# Altium footprint library FQFP (0.5mm Pitch, Square) - Corner Index.PcbLib: 53 footprints (part 3 of 5)
Each footprint in its own frame and in the unit in brackets; x right, y up, seen from the top. Pads: shape width x height; smd on the part's side, far side on the other; paste and mask are expansions set on the pad; w line width, h text height; cw(c..) or ccw(c..) is an arc to the next point about the centre after c.
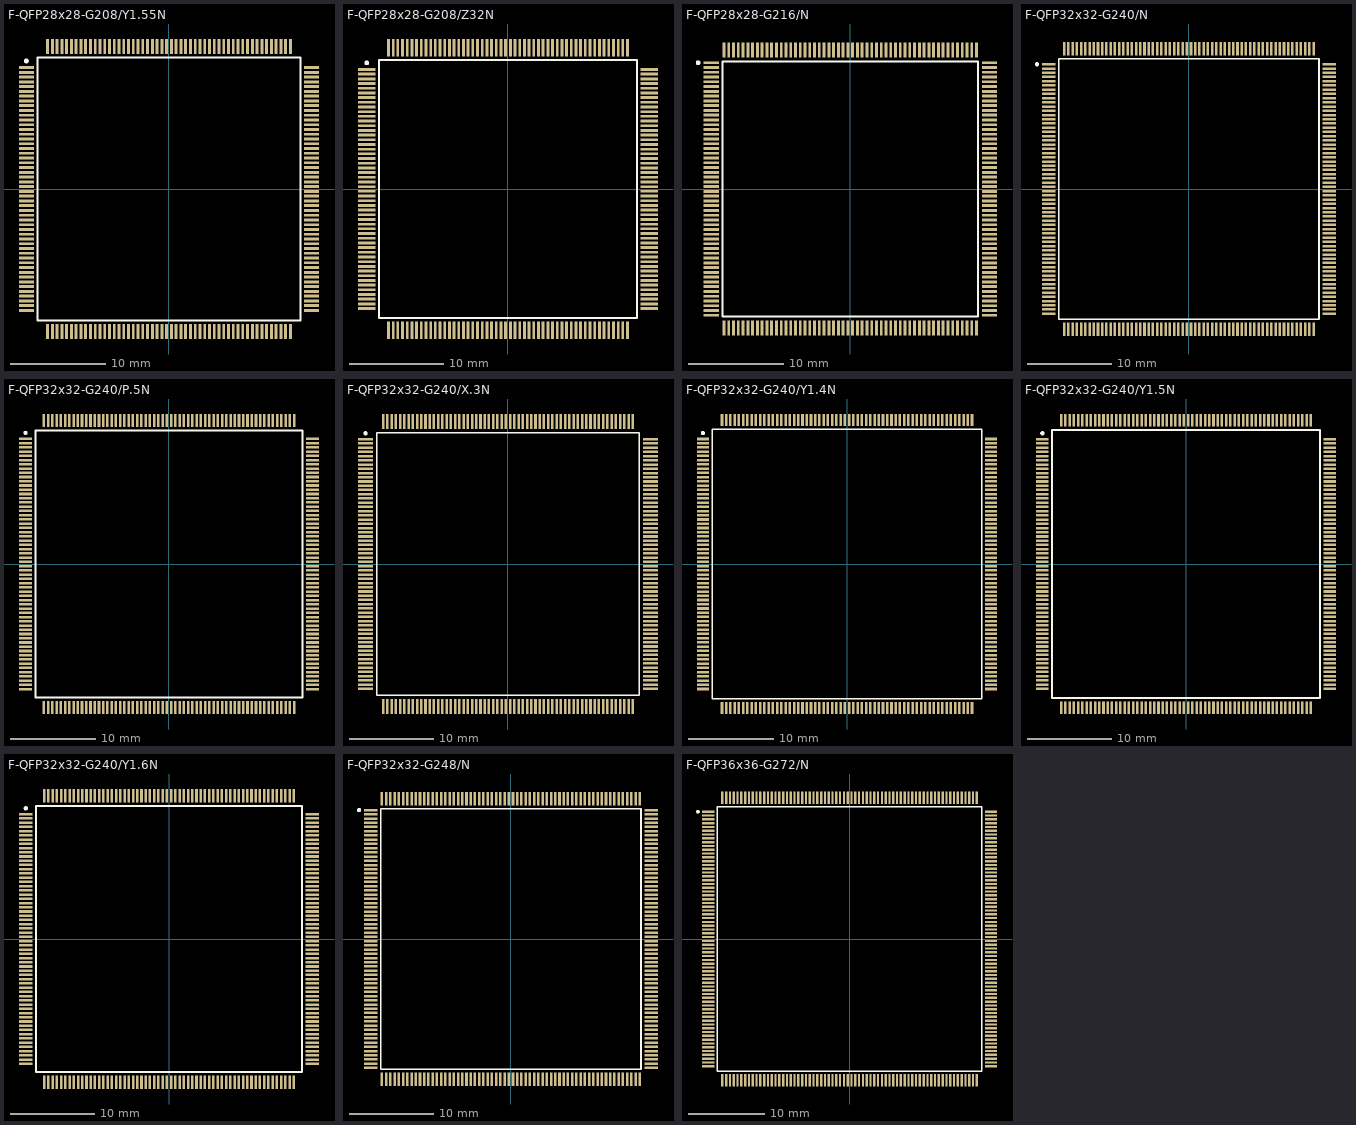
[diagram p2: the footprints below, top view; thin cyan lines are the x and y axes]

## F-QFP28x28-G208/Y1.55N [mm]
pads (208):
  rect 1.55x0.3 smd: 1(-14.975,12.75) 2(-14.975,12.25) 3(-14.975,11.75) 4(-14.975,11.25) 5(-14.975,10.75) 6(-14.975,10.25) 7(-14.975,9.75) 8(-14.975,9.25) 9(-14.975,8.75) 10(-14.975,8.25) 11(-14.975,7.75) 12(-14.975,7.25) 13(-14.975,6.75) 14(-14.975,6.25) 15(-14.975,5.75) 16(-14.975,5.25) 17(-14.975,4.75) 18(-14.975,4.25) 19(-14.975,3.75) 20(-14.975,3.25) 21(-14.975,2.75) 22(-14.975,2.25) 23(-14.975,1.75) 24(-14.975,1.25) 25(-14.975,0.75) 26(-14.975,0.25) 27(-14.975,-0.25) 28(-14.975,-0.75) 29(-14.975,-1.25) 30(-14.975,-1.75) 31(-14.975,-2.25) 32(-14.975,-2.75) 33(-14.975,-3.25) 34(-14.975,-3.75) 35(-14.975,-4.25) 36(-14.975,-4.75) 37(-14.975,-5.25) 38(-14.975,-5.75) 39(-14.975,-6.25) 40(-14.975,-6.75) 41(-14.975,-7.25) 42(-14.975,-7.75) 43(-14.975,-8.25) 44(-14.975,-8.75) 45(-14.975,-9.25) 46(-14.975,-9.75) 47(-14.975,-10.25) 48(-14.975,-10.75) 49(-14.975,-11.25) 50(-14.975,-11.75) 51(-14.975,-12.25) 52(-14.975,-12.75) 105(14.975,-12.75) 106(14.975,-12.25) 107(14.975,-11.75) 108(14.975,-11.25) 109(14.975,-10.75) 110(14.975,-10.25) 111(14.975,-9.75) 112(14.975,-9.25) 113(14.975,-8.75) 114(14.975,-8.25) 115(14.975,-7.75) 116(14.975,-7.25) 117(14.975,-6.75) 118(14.975,-6.25) 119(14.975,-5.75) 120(14.975,-5.25) 121(14.975,-4.75) 122(14.975,-4.25) 123(14.975,-3.75) 124(14.975,-3.25) 125(14.975,-2.75) 126(14.975,-2.25) 127(14.975,-1.75) 128(14.975,-1.25) 129(14.975,-0.75) 130(14.975,-0.25) 131(14.975,0.25) 132(14.975,0.75) 133(14.975,1.25) 134(14.975,1.75) 135(14.975,2.25) 136(14.975,2.75) 137(14.975,3.25) 138(14.975,3.75) 139(14.975,4.25) 140(14.975,4.75) 141(14.975,5.25) 142(14.975,5.75) 143(14.975,6.25) 144(14.975,6.75) 145(14.975,7.25) 146(14.975,7.75) 147(14.975,8.25) 148(14.975,8.75) 149(14.975,9.25) 150(14.975,9.75) 151(14.975,10.25) 152(14.975,10.75) 153(14.975,11.25) 154(14.975,11.75) 155(14.975,12.25) 156(14.975,12.75)
  rect 0.3x1.55 smd: 53(-12.75,-14.975) 54(-12.25,-14.975) 55(-11.75,-14.975) 56(-11.25,-14.975) 57(-10.75,-14.975) 58(-10.25,-14.975) 59(-9.75,-14.975) 60(-9.25,-14.975) 61(-8.75,-14.975) 62(-8.25,-14.975) 63(-7.75,-14.975) 64(-7.25,-14.975) 65(-6.75,-14.975) 66(-6.25,-14.975) 67(-5.75,-14.975) 68(-5.25,-14.975) 69(-4.75,-14.975) 70(-4.25,-14.975) 71(-3.75,-14.975) 72(-3.25,-14.975) 73(-2.75,-14.975) 74(-2.25,-14.975) 75(-1.75,-14.975) 76(-1.25,-14.975) 77(-0.75,-14.975) 78(-0.25,-14.975) 79(0.25,-14.975) 80(0.75,-14.975) 81(1.25,-14.975) 82(1.75,-14.975) 83(2.25,-14.975) 84(2.75,-14.975) 85(3.25,-14.975) 86(3.75,-14.975) 87(4.25,-14.975) 88(4.75,-14.975) 89(5.25,-14.975) 90(5.75,-14.975) 91(6.25,-14.975) 92(6.75,-14.975) 93(7.25,-14.975) 94(7.75,-14.975) 95(8.25,-14.975) 96(8.75,-14.975) 97(9.25,-14.975) 98(9.75,-14.975) 99(10.25,-14.975) 100(10.75,-14.975) 101(11.25,-14.975) 102(11.75,-14.975) 103(12.25,-14.975) 104(12.75,-14.975) 157(12.75,14.975) 158(12.25,14.975) 159(11.75,14.975) 160(11.25,14.975) 161(10.75,14.975) 162(10.25,14.975) 163(9.75,14.975) 164(9.25,14.975) 165(8.75,14.975) 166(8.25,14.975) 167(7.75,14.975) 168(7.25,14.975) 169(6.75,14.975) 170(6.25,14.975) 171(5.75,14.975) 172(5.25,14.975) 173(4.75,14.975) 174(4.25,14.975) 175(3.75,14.975) 176(3.25,14.975) 177(2.75,14.975) 178(2.25,14.975) 179(1.75,14.975) 180(1.25,14.975) 181(0.75,14.975) 182(0.25,14.975) 183(-0.25,14.975) 184(-0.75,14.975) 185(-1.25,14.975) 186(-1.75,14.975) 187(-2.25,14.975) 188(-2.75,14.975) 189(-3.25,14.975) 190(-3.75,14.975) 191(-4.25,14.975) 192(-4.75,14.975) 193(-5.25,14.975) 194(-5.75,14.975) 195(-6.25,14.975) 196(-6.75,14.975) 197(-7.25,14.975) 198(-7.75,14.975) 199(-8.25,14.975) 200(-8.75,14.975) 201(-9.25,14.975) 202(-9.75,14.975) 203(-10.25,14.975) 204(-10.75,14.975) 205(-11.25,14.975) 206(-11.75,14.975) 207(-12.25,14.975) 208(-12.75,14.975)
Top Overlay:
  circle w0.25: c-14.975,13.45 r0.125
  lines w0.2: -13.8,-13.8 -13.8,13.8 13.8,13.8 13.8,-13.8 -13.8,-13.8

## F-QFP28x28-G208/Z32N [mm]
pads (208):
  rect 1.85x0.3 smd: 1(-15.075,12.75) 2(-15.075,12.25) 3(-15.075,11.75) 4(-15.075,11.25) 5(-15.075,10.75) 6(-15.075,10.25) 7(-15.075,9.75) 8(-15.075,9.25) 9(-15.075,8.75) 10(-15.075,8.25) 11(-15.075,7.75) 12(-15.075,7.25) 13(-15.075,6.75) 14(-15.075,6.25) 15(-15.075,5.75) 16(-15.075,5.25) 17(-15.075,4.75) 18(-15.075,4.25) 19(-15.075,3.75) 20(-15.075,3.25) 21(-15.075,2.75) 22(-15.075,2.25) 23(-15.075,1.75) 24(-15.075,1.25) 25(-15.075,0.75) 26(-15.075,0.25) 27(-15.075,-0.25) 28(-15.075,-0.75) 29(-15.075,-1.25) 30(-15.075,-1.75) 31(-15.075,-2.25) 32(-15.075,-2.75) 33(-15.075,-3.25) 34(-15.075,-3.75) 35(-15.075,-4.25) 36(-15.075,-4.75) 37(-15.075,-5.25) 38(-15.075,-5.75) 39(-15.075,-6.25) 40(-15.075,-6.75) 41(-15.075,-7.25) 42(-15.075,-7.75) 43(-15.075,-8.25) 44(-15.075,-8.75) 45(-15.075,-9.25) 46(-15.075,-9.75) 47(-15.075,-10.25) 48(-15.075,-10.75) 49(-15.075,-11.25) 50(-15.075,-11.75) 51(-15.075,-12.25) 52(-15.075,-12.75) 105(15.075,-12.75) 106(15.075,-12.25) 107(15.075,-11.75) 108(15.075,-11.25) 109(15.075,-10.75) 110(15.075,-10.25) 111(15.075,-9.75) 112(15.075,-9.25) 113(15.075,-8.75) 114(15.075,-8.25) 115(15.075,-7.75) 116(15.075,-7.25) 117(15.075,-6.75) 118(15.075,-6.25) 119(15.075,-5.75) 120(15.075,-5.25) 121(15.075,-4.75) 122(15.075,-4.25) 123(15.075,-3.75) 124(15.075,-3.25) 125(15.075,-2.75) 126(15.075,-2.25) 127(15.075,-1.75) 128(15.075,-1.25) 129(15.075,-0.75) 130(15.075,-0.25) 131(15.075,0.25) 132(15.075,0.75) 133(15.075,1.25) 134(15.075,1.75) 135(15.075,2.25) 136(15.075,2.75) 137(15.075,3.25) 138(15.075,3.75) 139(15.075,4.25) 140(15.075,4.75) 141(15.075,5.25) 142(15.075,5.75) 143(15.075,6.25) 144(15.075,6.75) 145(15.075,7.25) 146(15.075,7.75) 147(15.075,8.25) 148(15.075,8.75) 149(15.075,9.25) 150(15.075,9.75) 151(15.075,10.25) 152(15.075,10.75) 153(15.075,11.25) 154(15.075,11.75) 155(15.075,12.25) 156(15.075,12.75)
  rect 0.3x1.85 smd: 53(-12.75,-15.075) 54(-12.25,-15.075) 55(-11.75,-15.075) 56(-11.25,-15.075) 57(-10.75,-15.075) 58(-10.25,-15.075) 59(-9.75,-15.075) 60(-9.25,-15.075) 61(-8.75,-15.075) 62(-8.25,-15.075) 63(-7.75,-15.075) 64(-7.25,-15.075) 65(-6.75,-15.075) 66(-6.25,-15.075) 67(-5.75,-15.075) 68(-5.25,-15.075) 69(-4.75,-15.075) 70(-4.25,-15.075) 71(-3.75,-15.075) 72(-3.25,-15.075) 73(-2.75,-15.075) 74(-2.25,-15.075) 75(-1.75,-15.075) 76(-1.25,-15.075) 77(-0.75,-15.075) 78(-0.25,-15.075) 79(0.25,-15.075) 80(0.75,-15.075) 81(1.25,-15.075) 82(1.75,-15.075) 83(2.25,-15.075) 84(2.75,-15.075) 85(3.25,-15.075) 86(3.75,-15.075) 87(4.25,-15.075) 88(4.75,-15.075) 89(5.25,-15.075) 90(5.75,-15.075) 91(6.25,-15.075) 92(6.75,-15.075) 93(7.25,-15.075) 94(7.75,-15.075) 95(8.25,-15.075) 96(8.75,-15.075) 97(9.25,-15.075) 98(9.75,-15.075) 99(10.25,-15.075) 100(10.75,-15.075) 101(11.25,-15.075) 102(11.75,-15.075) 103(12.25,-15.075) 104(12.75,-15.075) 157(12.75,15.075) 158(12.25,15.075) 159(11.75,15.075) 160(11.25,15.075) 161(10.75,15.075) 162(10.25,15.075) 163(9.75,15.075) 164(9.25,15.075) 165(8.75,15.075) 166(8.25,15.075) 167(7.75,15.075) 168(7.25,15.075) 169(6.75,15.075) 170(6.25,15.075) 171(5.75,15.075) 172(5.25,15.075) 173(4.75,15.075) 174(4.25,15.075) 175(3.75,15.075) 176(3.25,15.075) 177(2.75,15.075) 178(2.25,15.075) 179(1.75,15.075) 180(1.25,15.075) 181(0.75,15.075) 182(0.25,15.075) 183(-0.25,15.075) 184(-0.75,15.075) 185(-1.25,15.075) 186(-1.75,15.075) 187(-2.25,15.075) 188(-2.75,15.075) 189(-3.25,15.075) 190(-3.75,15.075) 191(-4.25,15.075) 192(-4.75,15.075) 193(-5.25,15.075) 194(-5.75,15.075) 195(-6.25,15.075) 196(-6.75,15.075) 197(-7.25,15.075) 198(-7.75,15.075) 199(-8.25,15.075) 200(-8.75,15.075) 201(-9.25,15.075) 202(-9.75,15.075) 203(-10.25,15.075) 204(-10.75,15.075) 205(-11.25,15.075) 206(-11.75,15.075) 207(-12.25,15.075) 208(-12.75,15.075)
Top Overlay:
  circle w0.25: c-15.075,13.45 r0.125
  lines w0.2: -13.75,-13.75 13.75,-13.75 13.75,13.75 -13.75,13.75 -13.75,-13.75

## F-QFP28x28-G216/N [mm]
pads (216):
  rect 1.6x0.3 smd: 1(-14.6,13.25) 2(-14.6,12.75) 3(-14.6,12.25) 4(-14.6,11.75) 5(-14.6,11.25) 6(-14.6,10.75) 7(-14.6,10.25) 8(-14.6,9.75) 9(-14.6,9.25) 10(-14.6,8.75) 11(-14.6,8.25) 12(-14.6,7.75) 13(-14.6,7.25) 14(-14.6,6.75) 15(-14.6,6.25) 16(-14.6,5.75) 17(-14.6,5.25) 18(-14.6,4.75) 19(-14.6,4.25) 20(-14.6,3.75) 21(-14.6,3.25) 22(-14.6,2.75) 23(-14.6,2.25) 24(-14.6,1.75) 25(-14.6,1.25) 26(-14.6,0.75) 27(-14.6,0.25) 28(-14.6,-0.25) 29(-14.6,-0.75) 30(-14.6,-1.25) 31(-14.6,-1.75) 32(-14.6,-2.25) 33(-14.6,-2.75) 34(-14.6,-3.25) 35(-14.6,-3.75) 36(-14.6,-4.25) 37(-14.6,-4.75) 38(-14.6,-5.25) 39(-14.6,-5.75) 40(-14.6,-6.25) 41(-14.6,-6.75) 42(-14.6,-7.25) 43(-14.6,-7.75) 44(-14.6,-8.25) 45(-14.6,-8.75) 46(-14.6,-9.25) 47(-14.6,-9.75) 48(-14.6,-10.25) 49(-14.6,-10.75) 50(-14.6,-11.25) 51(-14.6,-11.75) 52(-14.6,-12.25) 53(-14.6,-12.75) 54(-14.6,-13.25) 109(14.6,-13.25) 110(14.6,-12.75) 111(14.6,-12.25) 112(14.6,-11.75) 113(14.6,-11.25) 114(14.6,-10.75) 115(14.6,-10.25) 116(14.6,-9.75) 117(14.6,-9.25) 118(14.6,-8.75) 119(14.6,-8.25) 120(14.6,-7.75) 121(14.6,-7.25) 122(14.6,-6.75) 123(14.6,-6.25) 124(14.6,-5.75) 125(14.6,-5.25) 126(14.6,-4.75) 127(14.6,-4.25) 128(14.6,-3.75) 129(14.6,-3.25) 130(14.6,-2.75) 131(14.6,-2.25) 132(14.6,-1.75) 133(14.6,-1.25) 134(14.6,-0.75) 135(14.6,-0.25) 136(14.6,0.25) 137(14.6,0.75) 138(14.6,1.25) 139(14.6,1.75) 140(14.6,2.25) 141(14.6,2.75) 142(14.6,3.25) 143(14.6,3.75) 144(14.6,4.25) 145(14.6,4.75) 146(14.6,5.25) 147(14.6,5.75) 148(14.6,6.25) 149(14.6,6.75) 150(14.6,7.25) 151(14.6,7.75) 152(14.6,8.25) 153(14.6,8.75) 154(14.6,9.25) 155(14.6,9.75) 156(14.6,10.25) 157(14.6,10.75) 158(14.6,11.25) 159(14.6,11.75) 160(14.6,12.25) 161(14.6,12.75) 162(14.6,13.25)
  rect 0.3x1.6 smd: 55(-13.25,-14.6) 56(-12.75,-14.6) 57(-12.25,-14.6) 58(-11.75,-14.6) 59(-11.25,-14.6) 60(-10.75,-14.6) 61(-10.25,-14.6) 62(-9.75,-14.6) 63(-9.25,-14.6) 64(-8.75,-14.6) 65(-8.25,-14.6) 66(-7.75,-14.6) 67(-7.25,-14.6) 68(-6.75,-14.6) 69(-6.25,-14.6) 70(-5.75,-14.6) 71(-5.25,-14.6) 72(-4.75,-14.6) 73(-4.25,-14.6) 74(-3.75,-14.6) 75(-3.25,-14.6) 76(-2.75,-14.6) 77(-2.25,-14.6) 78(-1.75,-14.6) 79(-1.25,-14.6) 80(-0.75,-14.6) 81(-0.25,-14.6) 82(0.25,-14.6) 83(0.75,-14.6) 84(1.25,-14.6) 85(1.75,-14.6) 86(2.25,-14.6) 87(2.75,-14.6) 88(3.25,-14.6) 89(3.75,-14.6) 90(4.25,-14.6) 91(4.75,-14.6) 92(5.25,-14.6) 93(5.75,-14.6) 94(6.25,-14.6) 95(6.75,-14.6) 96(7.25,-14.6) 97(7.75,-14.6) 98(8.25,-14.6) 99(8.75,-14.6) 100(9.25,-14.6) 101(9.75,-14.6) 102(10.25,-14.6) 103(10.75,-14.6) 104(11.25,-14.6) 105(11.75,-14.6) 106(12.25,-14.6) 107(12.75,-14.6) 108(13.25,-14.6) 163(13.25,14.6) 164(12.75,14.6) 165(12.25,14.6) 166(11.75,14.6) 167(11.25,14.6) 168(10.75,14.6) 169(10.25,14.6) 170(9.75,14.6) 171(9.25,14.6) 172(8.75,14.6) 173(8.25,14.6) 174(7.75,14.6) 175(7.25,14.6) 176(6.75,14.6) 177(6.25,14.6) 178(5.75,14.6) 179(5.25,14.6) 180(4.75,14.6) 181(4.25,14.6) 182(3.75,14.6) 183(3.25,14.6) 184(2.75,14.6) 185(2.25,14.6) 186(1.75,14.6) 187(1.25,14.6) 188(0.75,14.6) 189(0.25,14.6) 190(-0.25,14.6) 191(-0.75,14.6) 192(-1.25,14.6) 193(-1.75,14.6) 194(-2.25,14.6) 195(-2.75,14.6) 196(-3.25,14.6) 197(-3.75,14.6) 198(-4.25,14.6) 199(-4.75,14.6) 200(-5.25,14.6) 201(-5.75,14.6) 202(-6.25,14.6) 203(-6.75,14.6) 204(-7.25,14.6) 205(-7.75,14.6) 206(-8.25,14.6) 207(-8.75,14.6) 208(-9.25,14.6) 209(-9.75,14.6) 210(-10.25,14.6) 211(-10.75,14.6) 212(-11.25,14.6) 213(-11.75,14.6) 214(-12.25,14.6) 215(-12.75,14.6) 216(-13.25,14.6)
Top Overlay:
  circle w0.25: c-15.96,13.25 r0.125
  lines w0.2: -13.4,-13.4 13.4,-13.4 13.4,13.4 -13.4,13.4 -13.4,-13.4

## F-QFP32x32-G240/N [mm]
pads (240):
  rect 1.6x0.3 smd: 1(-16.6,14.75) 2(-16.6,14.25) 3(-16.6,13.75) 4(-16.6,13.25) 5(-16.6,12.75) 6(-16.6,12.25) 7(-16.6,11.75) 8(-16.6,11.25) 9(-16.6,10.75) 10(-16.6,10.25) 11(-16.6,9.75) 12(-16.6,9.25) 13(-16.6,8.75) 14(-16.6,8.25) 15(-16.6,7.75) 16(-16.6,7.25) 17(-16.6,6.75) 18(-16.6,6.25) 19(-16.6,5.75) 20(-16.6,5.25) 21(-16.6,4.75) 22(-16.6,4.25) 23(-16.6,3.75) 24(-16.6,3.25) 25(-16.6,2.75) 26(-16.6,2.25) 27(-16.6,1.75) 28(-16.6,1.25) 29(-16.6,0.75) 30(-16.6,0.25) 31(-16.6,-0.25) 32(-16.6,-0.75) 33(-16.6,-1.25) 34(-16.6,-1.75) 35(-16.6,-2.25) 36(-16.6,-2.75) 37(-16.6,-3.25) 38(-16.6,-3.75) 39(-16.6,-4.25) 40(-16.6,-4.75) 41(-16.6,-5.25) 42(-16.6,-5.75) 43(-16.6,-6.25) 44(-16.6,-6.75) 45(-16.6,-7.25) 46(-16.6,-7.75) 47(-16.6,-8.25) 48(-16.6,-8.75) 49(-16.6,-9.25) 50(-16.6,-9.75) 51(-16.6,-10.25) 52(-16.6,-10.75) 53(-16.6,-11.25) 54(-16.6,-11.75) 55(-16.6,-12.25) 56(-16.6,-12.75) 57(-16.6,-13.25) 58(-16.6,-13.75) 59(-16.6,-14.25) 60(-16.6,-14.75) 121(16.6,-14.75) 122(16.6,-14.25) 123(16.6,-13.75) 124(16.6,-13.25) 125(16.6,-12.75) 126(16.6,-12.25) 127(16.6,-11.75) 128(16.6,-11.25) 129(16.6,-10.75) 130(16.6,-10.25) 131(16.6,-9.75) 132(16.6,-9.25) 133(16.6,-8.75) 134(16.6,-8.25) 135(16.6,-7.75) 136(16.6,-7.25) 137(16.6,-6.75) 138(16.6,-6.25) 139(16.6,-5.75) 140(16.6,-5.25) 141(16.6,-4.75) 142(16.6,-4.25) 143(16.6,-3.75) 144(16.6,-3.25) 145(16.6,-2.75) 146(16.6,-2.25) 147(16.6,-1.75) 148(16.6,-1.25) 149(16.6,-0.75) 150(16.6,-0.25) 151(16.6,0.25) 152(16.6,0.75) 153(16.6,1.25) 154(16.6,1.75) 155(16.6,2.25) 156(16.6,2.75) 157(16.6,3.25) 158(16.6,3.75) 159(16.6,4.25) 160(16.6,4.75) 161(16.6,5.25) 162(16.6,5.75) 163(16.6,6.25) 164(16.6,6.75) 165(16.6,7.25) 166(16.6,7.75) 167(16.6,8.25) 168(16.6,8.75) 169(16.6,9.25) 170(16.6,9.75) 171(16.6,10.25) 172(16.6,10.75) 173(16.6,11.25) 174(16.6,11.75) 175(16.6,12.25) 176(16.6,12.75) 177(16.6,13.25) 178(16.6,13.75) 179(16.6,14.25) 180(16.6,14.75)
  rect 0.3x1.6 smd: 61(-14.75,-16.6) 62(-14.25,-16.6) 63(-13.75,-16.6) 64(-13.25,-16.6) 65(-12.75,-16.6) 66(-12.25,-16.6) 67(-11.75,-16.6) 68(-11.25,-16.6) 69(-10.75,-16.6) 70(-10.25,-16.6) 71(-9.75,-16.6) 72(-9.25,-16.6) 73(-8.75,-16.6) 74(-8.25,-16.6) 75(-7.75,-16.6) 76(-7.25,-16.6) 77(-6.75,-16.6) 78(-6.25,-16.6) 79(-5.75,-16.6) 80(-5.25,-16.6) 81(-4.75,-16.6) 82(-4.25,-16.6) 83(-3.75,-16.6) 84(-3.25,-16.6) 85(-2.75,-16.6) 86(-2.25,-16.6) 87(-1.75,-16.6) 88(-1.25,-16.6) 89(-0.75,-16.6) 90(-0.25,-16.6) 91(0.25,-16.6) 92(0.75,-16.6) 93(1.25,-16.6) 94(1.75,-16.6) 95(2.25,-16.6) 96(2.75,-16.6) 97(3.25,-16.6) 98(3.75,-16.6) 99(4.25,-16.6) 100(4.75,-16.6) 101(5.25,-16.6) 102(5.75,-16.6) 103(6.25,-16.6) 104(6.75,-16.6) 105(7.25,-16.6) 106(7.75,-16.6) 107(8.25,-16.6) 108(8.75,-16.6) 109(9.25,-16.6) 110(9.75,-16.6) 111(10.25,-16.6) 112(10.75,-16.6) 113(11.25,-16.6) 114(11.75,-16.6) 115(12.25,-16.6) 116(12.75,-16.6) 117(13.25,-16.6) 118(13.75,-16.6) 119(14.25,-16.6) 120(14.75,-16.6) 181(14.75,16.6) 182(14.25,16.6) 183(13.75,16.6) 184(13.25,16.6) 185(12.75,16.6) 186(12.25,16.6) 187(11.75,16.6) 188(11.25,16.6) 189(10.75,16.6) 190(10.25,16.6) 191(9.75,16.6) 192(9.25,16.6) 193(8.75,16.6) 194(8.25,16.6) 195(7.75,16.6) 196(7.25,16.6) 197(6.75,16.6) 198(6.25,16.6) 199(5.75,16.6) 200(5.25,16.6) 201(4.75,16.6) 202(4.25,16.6) 203(3.75,16.6) 204(3.25,16.6) 205(2.75,16.6) 206(2.25,16.6) 207(1.75,16.6) 208(1.25,16.6) 209(0.75,16.6) 210(0.25,16.6) 211(-0.25,16.6) 212(-0.75,16.6) 213(-1.25,16.6) 214(-1.75,16.6) 215(-2.25,16.6) 216(-2.75,16.6) 217(-3.25,16.6) 218(-3.75,16.6) 219(-4.25,16.6) 220(-4.75,16.6) 221(-5.25,16.6) 222(-5.75,16.6) 223(-6.25,16.6) 224(-6.75,16.6) 225(-7.25,16.6) 226(-7.75,16.6) 227(-8.25,16.6) 228(-8.75,16.6) 229(-9.25,16.6) 230(-9.75,16.6) 231(-10.25,16.6) 232(-10.75,16.6) 233(-11.25,16.6) 234(-11.75,16.6) 235(-12.25,16.6) 236(-12.75,16.6) 237(-13.25,16.6) 238(-13.75,16.6) 239(-14.25,16.6) 240(-14.75,16.6)
Top Overlay:
  circle w0.25: c-17.96,14.75 r0.125
  lines w0.2: -15.4,-15.4 -15.4,15.4 15.4,15.4 15.4,-15.4 -15.4,-15.4

## F-QFP32x32-G240/P.5N [mm]
pads (240):
  rect 1.55x0.3 smd: 1(-16.9,14.75) 2(-16.9,14.25) 3(-16.9,13.75) 4(-16.9,13.25) 5(-16.9,12.75) 6(-16.9,12.25) 7(-16.9,11.75) 8(-16.9,11.25) 9(-16.9,10.75) 10(-16.9,10.25) 11(-16.9,9.75) 12(-16.9,9.25) 13(-16.9,8.75) 14(-16.9,8.25) 15(-16.9,7.75) 16(-16.9,7.25) 17(-16.9,6.75) 18(-16.9,6.25) 19(-16.9,5.75) 20(-16.9,5.25) 21(-16.9,4.75) 22(-16.9,4.25) 23(-16.9,3.75) 24(-16.9,3.25) 25(-16.9,2.75) 26(-16.9,2.25) 27(-16.9,1.75) 28(-16.9,1.25) 29(-16.9,0.75) 30(-16.9,0.25) 31(-16.9,-0.25) 32(-16.9,-0.75) 33(-16.9,-1.25) 34(-16.9,-1.75) 35(-16.9,-2.25) 36(-16.9,-2.75) 37(-16.9,-3.25) 38(-16.9,-3.75) 39(-16.9,-4.25) 40(-16.9,-4.75) 41(-16.9,-5.25) 42(-16.9,-5.75) 43(-16.9,-6.25) 44(-16.9,-6.75) 45(-16.9,-7.25) 46(-16.9,-7.75) 47(-16.9,-8.25) 48(-16.9,-8.75) 49(-16.9,-9.25) 50(-16.9,-9.75) 51(-16.9,-10.25) 52(-16.9,-10.75) 53(-16.9,-11.25) 54(-16.9,-11.75) 55(-16.9,-12.25) 56(-16.9,-12.75) 57(-16.9,-13.25) 58(-16.9,-13.75) 59(-16.9,-14.25) 60(-16.9,-14.75) 121(16.9,-14.75) 122(16.9,-14.25) 123(16.9,-13.75) 124(16.9,-13.25) 125(16.9,-12.75) 126(16.9,-12.25) 127(16.9,-11.75) 128(16.9,-11.25) 129(16.9,-10.75) 130(16.9,-10.25) 131(16.9,-9.75) 132(16.9,-9.25) 133(16.9,-8.75) 134(16.9,-8.25) 135(16.9,-7.75) 136(16.9,-7.25) 137(16.9,-6.75) 138(16.9,-6.25) 139(16.9,-5.75) 140(16.9,-5.25) 141(16.9,-4.75) 142(16.9,-4.25) 143(16.9,-3.75) 144(16.9,-3.25) 145(16.9,-2.75) 146(16.9,-2.25) 147(16.9,-1.75) 148(16.9,-1.25) 149(16.9,-0.75) 150(16.9,-0.25) 151(16.9,0.25) 152(16.9,0.75) 153(16.9,1.25) 154(16.9,1.75) 155(16.9,2.25) 156(16.9,2.75) 157(16.9,3.25) 158(16.9,3.75) 159(16.9,4.25) 160(16.9,4.75) 161(16.9,5.25) 162(16.9,5.75) 163(16.9,6.25) 164(16.9,6.75) 165(16.9,7.25) 166(16.9,7.75) 167(16.9,8.25) 168(16.9,8.75) 169(16.9,9.25) 170(16.9,9.75) 171(16.9,10.25) 172(16.9,10.75) 173(16.9,11.25) 174(16.9,11.75) 175(16.9,12.25) 176(16.9,12.75) 177(16.9,13.25) 178(16.9,13.75) 179(16.9,14.25) 180(16.9,14.75)
  rect 0.3x1.55 smd: 61(-14.75,-16.9) 62(-14.25,-16.9) 63(-13.75,-16.9) 64(-13.25,-16.9) 65(-12.75,-16.9) 66(-12.25,-16.9) 67(-11.75,-16.9) 68(-11.25,-16.9) 69(-10.75,-16.9) 70(-10.25,-16.9) 71(-9.75,-16.9) 72(-9.25,-16.9) 73(-8.75,-16.9) 74(-8.25,-16.9) 75(-7.75,-16.9) 76(-7.25,-16.9) 77(-6.75,-16.9) 78(-6.25,-16.9) 79(-5.75,-16.9) 80(-5.25,-16.9) 81(-4.75,-16.9) 82(-4.25,-16.9) 83(-3.75,-16.9) 84(-3.25,-16.9) 85(-2.75,-16.9) 86(-2.25,-16.9) 87(-1.75,-16.9) 88(-1.25,-16.9) 89(-0.75,-16.9) 90(-0.25,-16.9) 91(0.25,-16.9) 92(0.75,-16.9) 93(1.25,-16.9) 94(1.75,-16.9) 95(2.25,-16.9) 96(2.75,-16.9) 97(3.25,-16.9) 98(3.75,-16.9) 99(4.25,-16.9) 100(4.75,-16.9) 101(5.25,-16.9) 102(5.75,-16.9) 103(6.25,-16.9) 104(6.75,-16.9) 105(7.25,-16.9) 106(7.75,-16.9) 107(8.25,-16.9) 108(8.75,-16.9) 109(9.25,-16.9) 110(9.75,-16.9) 111(10.25,-16.9) 112(10.75,-16.9) 113(11.25,-16.9) 114(11.75,-16.9) 115(12.25,-16.9) 116(12.75,-16.9) 117(13.25,-16.9) 118(13.75,-16.9) 119(14.25,-16.9) 120(14.75,-16.9) 181(14.75,16.9) 182(14.25,16.9) 183(13.75,16.9) 184(13.25,16.9) 185(12.75,16.9) 186(12.25,16.9) 187(11.75,16.9) 188(11.25,16.9) 189(10.75,16.9) 190(10.25,16.9) 191(9.75,16.9) 192(9.25,16.9) 193(8.75,16.9) 194(8.25,16.9) 195(7.75,16.9) 196(7.25,16.9) 197(6.75,16.9) 198(6.25,16.9) 199(5.75,16.9) 200(5.25,16.9) 201(4.75,16.9) 202(4.25,16.9) 203(3.75,16.9) 204(3.25,16.9) 205(2.75,16.9) 206(2.25,16.9) 207(1.75,16.9) 208(1.25,16.9) 209(0.75,16.9) 210(0.25,16.9) 211(-0.25,16.9) 212(-0.75,16.9) 213(-1.25,16.9) 214(-1.75,16.9) 215(-2.25,16.9) 216(-2.75,16.9) 217(-3.25,16.9) 218(-3.75,16.9) 219(-4.25,16.9) 220(-4.75,16.9) 221(-5.25,16.9) 222(-5.75,16.9) 223(-6.25,16.9) 224(-6.75,16.9) 225(-7.25,16.9) 226(-7.75,16.9) 227(-8.25,16.9) 228(-8.75,16.9) 229(-9.25,16.9) 230(-9.75,16.9) 231(-10.25,16.9) 232(-10.75,16.9) 233(-11.25,16.9) 234(-11.75,16.9) 235(-12.25,16.9) 236(-12.75,16.9) 237(-13.25,16.9) 238(-13.75,16.9) 239(-14.25,16.9) 240(-14.75,16.9)
Top Overlay:
  circle w0.25: c-16.9,15.45 r0.125
  lines w0.2: -15.725,-15.725 -15.725,15.725 15.725,15.725 15.725,-15.725 -15.725,-15.725

## F-QFP32x32-G240/X.3N [mm]
pads (240):
  rect 1.8x0.3 smd: 1(-16.83,14.75) 2(-16.83,14.25) 3(-16.83,13.75) 4(-16.83,13.25) 5(-16.83,12.75) 6(-16.83,12.25) 7(-16.83,11.75) 8(-16.83,11.25) 9(-16.83,10.75) 10(-16.83,10.25) 11(-16.83,9.75) 12(-16.83,9.25) 13(-16.83,8.75) 14(-16.83,8.25) 15(-16.83,7.75) 16(-16.83,7.25) 17(-16.83,6.75) 18(-16.83,6.25) 19(-16.83,5.75) 20(-16.83,5.25) 21(-16.83,4.75) 22(-16.83,4.25) 23(-16.83,3.75) 24(-16.83,3.25) 25(-16.83,2.75) 26(-16.83,2.25) 27(-16.83,1.75) 28(-16.83,1.25) 29(-16.83,0.75) 30(-16.83,0.25) 31(-16.83,-0.25) 32(-16.83,-0.75) 33(-16.83,-1.25) 34(-16.83,-1.75) 35(-16.83,-2.25) 36(-16.83,-2.75) 37(-16.83,-3.25) 38(-16.83,-3.75) 39(-16.83,-4.25) 40(-16.83,-4.75) 41(-16.83,-5.25) 42(-16.83,-5.75) 43(-16.83,-6.25) 44(-16.83,-6.75) 45(-16.83,-7.25) 46(-16.83,-7.75) 47(-16.83,-8.25) 48(-16.83,-8.75) 49(-16.83,-9.25) 50(-16.83,-9.75) 51(-16.83,-10.25) 52(-16.83,-10.75) 53(-16.83,-11.25) 54(-16.83,-11.75) 55(-16.83,-12.25) 56(-16.83,-12.75) 57(-16.83,-13.25) 58(-16.83,-13.75) 59(-16.83,-14.25) 60(-16.83,-14.75) 121(16.83,-14.75) 122(16.83,-14.25) 123(16.83,-13.75) 124(16.83,-13.25) 125(16.83,-12.75) 126(16.83,-12.25) 127(16.83,-11.75) 128(16.83,-11.25) 129(16.83,-10.75) 130(16.83,-10.25) 131(16.83,-9.75) 132(16.83,-9.25) 133(16.83,-8.75) 134(16.83,-8.25) 135(16.83,-7.75) 136(16.83,-7.25) 137(16.83,-6.75) 138(16.83,-6.25) 139(16.83,-5.75) 140(16.83,-5.25) 141(16.83,-4.75) 142(16.83,-4.25) 143(16.83,-3.75) 144(16.83,-3.25) 145(16.83,-2.75) 146(16.83,-2.25) 147(16.83,-1.75) 148(16.83,-1.25) 149(16.83,-0.75) 150(16.83,-0.25) 151(16.83,0.25) 152(16.83,0.75) 153(16.83,1.25) 154(16.83,1.75) 155(16.83,2.25) 156(16.83,2.75) 157(16.83,3.25) 158(16.83,3.75) 159(16.83,4.25) 160(16.83,4.75) 161(16.83,5.25) 162(16.83,5.75) 163(16.83,6.25) 164(16.83,6.75) 165(16.83,7.25) 166(16.83,7.75) 167(16.83,8.25) 168(16.83,8.75) 169(16.83,9.25) 170(16.83,9.75) 171(16.83,10.25) 172(16.83,10.75) 173(16.83,11.25) 174(16.83,11.75) 175(16.83,12.25) 176(16.83,12.75) 177(16.83,13.25) 178(16.83,13.75) 179(16.83,14.25) 180(16.83,14.75)
  rect 0.3x1.8 smd: 61(-14.75,-16.83) 62(-14.25,-16.83) 63(-13.75,-16.83) 64(-13.25,-16.83) 65(-12.75,-16.83) 66(-12.25,-16.83) 67(-11.75,-16.83) 68(-11.25,-16.83) 69(-10.75,-16.83) 70(-10.25,-16.83) 71(-9.75,-16.83) 72(-9.25,-16.83) 73(-8.75,-16.83) 74(-8.25,-16.83) 75(-7.75,-16.83) 76(-7.25,-16.83) 77(-6.75,-16.83) 78(-6.25,-16.83) 79(-5.75,-16.83) 80(-5.25,-16.83) 81(-4.75,-16.83) 82(-4.25,-16.83) 83(-3.75,-16.83) 84(-3.25,-16.83) 85(-2.75,-16.83) 86(-2.25,-16.83) 87(-1.75,-16.83) 88(-1.25,-16.83) 89(-0.75,-16.83) 90(-0.25,-16.83) 91(0.25,-16.83) 92(0.75,-16.83) 93(1.25,-16.83) 94(1.75,-16.83) 95(2.25,-16.83) 96(2.75,-16.83) 97(3.25,-16.83) 98(3.75,-16.83) 99(4.25,-16.83) 100(4.75,-16.83) 101(5.25,-16.83) 102(5.75,-16.83) 103(6.25,-16.83) 104(6.75,-16.83) 105(7.25,-16.83) 106(7.75,-16.83) 107(8.25,-16.83) 108(8.75,-16.83) 109(9.25,-16.83) 110(9.75,-16.83) 111(10.25,-16.83) 112(10.75,-16.83) 113(11.25,-16.83) 114(11.75,-16.83) 115(12.25,-16.83) 116(12.75,-16.83) 117(13.25,-16.83) 118(13.75,-16.83) 119(14.25,-16.83) 120(14.75,-16.83) 181(14.75,16.83) 182(14.25,16.83) 183(13.75,16.83) 184(13.25,16.83) 185(12.75,16.83) 186(12.25,16.83) 187(11.75,16.83) 188(11.25,16.83) 189(10.75,16.83) 190(10.25,16.83) 191(9.75,16.83) 192(9.25,16.83) 193(8.75,16.83) 194(8.25,16.83) 195(7.75,16.83) 196(7.25,16.83) 197(6.75,16.83) 198(6.25,16.83) 199(5.75,16.83) 200(5.25,16.83) 201(4.75,16.83) 202(4.25,16.83) 203(3.75,16.83) 204(3.25,16.83) 205(2.75,16.83) 206(2.25,16.83) 207(1.75,16.83) 208(1.25,16.83) 209(0.75,16.83) 210(0.25,16.83) 211(-0.25,16.83) 212(-0.75,16.83) 213(-1.25,16.83) 214(-1.75,16.83) 215(-2.25,16.83) 216(-2.75,16.83) 217(-3.25,16.83) 218(-3.75,16.83) 219(-4.25,16.83) 220(-4.75,16.83) 221(-5.25,16.83) 222(-5.75,16.83) 223(-6.25,16.83) 224(-6.75,16.83) 225(-7.25,16.83) 226(-7.75,16.83) 227(-8.25,16.83) 228(-8.75,16.83) 229(-9.25,16.83) 230(-9.75,16.83) 231(-10.25,16.83) 232(-10.75,16.83) 233(-11.25,16.83) 234(-11.75,16.83) 235(-12.25,16.83) 236(-12.75,16.83) 237(-13.25,16.83) 238(-13.75,16.83) 239(-14.25,16.83) 240(-14.75,16.83)
Top Overlay:
  circle w0.25: c-16.83,15.45 r0.125
  lines w0.2: -15.525,-15.525 15.525,-15.525 15.525,15.525 -15.525,15.525 -15.525,-15.525

## F-QFP32x32-G240/Y1.4N [mm]
pads (240):
  rect 1.4x0.3 smd: 1(-17,14.75) 2(-17,14.25) 3(-17,13.75) 4(-17,13.25) 5(-17,12.75) 6(-17,12.25) 7(-17,11.75) 8(-17,11.25) 9(-17,10.75) 10(-17,10.25) 11(-17,9.75) 12(-17,9.25) 13(-17,8.75) 14(-17,8.25) 15(-17,7.75) 16(-17,7.25) 17(-17,6.75) 18(-17,6.25) 19(-17,5.75) 20(-17,5.25) 21(-17,4.75) 22(-17,4.25) 23(-17,3.75) 24(-17,3.25) 25(-17,2.75) 26(-17,2.25) 27(-17,1.75) 28(-17,1.25) 29(-17,0.75) 30(-17,0.25) 31(-17,-0.25) 32(-17,-0.75) 33(-17,-1.25) 34(-17,-1.75) 35(-17,-2.25) 36(-17,-2.75) 37(-17,-3.25) 38(-17,-3.75) 39(-17,-4.25) 40(-17,-4.75) 41(-17,-5.25) 42(-17,-5.75) 43(-17,-6.25) 44(-17,-6.75) 45(-17,-7.25) 46(-17,-7.75) 47(-17,-8.25) 48(-17,-8.75) 49(-17,-9.25) 50(-17,-9.75) 51(-17,-10.25) 52(-17,-10.75) 53(-17,-11.25) 54(-17,-11.75) 55(-17,-12.25) 56(-17,-12.75) 57(-17,-13.25) 58(-17,-13.75) 59(-17,-14.25) 60(-17,-14.75) 121(17,-14.75) 122(17,-14.25) 123(17,-13.75) 124(17,-13.25) 125(17,-12.75) 126(17,-12.25) 127(17,-11.75) 128(17,-11.25) 129(17,-10.75) 130(17,-10.25) 131(17,-9.75) 132(17,-9.25) 133(17,-8.75) 134(17,-8.25) 135(17,-7.75) 136(17,-7.25) 137(17,-6.75) 138(17,-6.25) 139(17,-5.75) 140(17,-5.25) 141(17,-4.75) 142(17,-4.25) 143(17,-3.75) 144(17,-3.25) 145(17,-2.75) 146(17,-2.25) 147(17,-1.75) 148(17,-1.25) 149(17,-0.75) 150(17,-0.25) 151(17,0.25) 152(17,0.75) 153(17,1.25) 154(17,1.75) 155(17,2.25) 156(17,2.75) 157(17,3.25) 158(17,3.75) 159(17,4.25) 160(17,4.75) 161(17,5.25) 162(17,5.75) 163(17,6.25) 164(17,6.75) 165(17,7.25) 166(17,7.75) 167(17,8.25) 168(17,8.75) 169(17,9.25) 170(17,9.75) 171(17,10.25) 172(17,10.75) 173(17,11.25) 174(17,11.75) 175(17,12.25) 176(17,12.75) 177(17,13.25) 178(17,13.75) 179(17,14.25) 180(17,14.75)
  rect 0.3x1.4 smd: 61(-14.75,-17) 62(-14.25,-17) 63(-13.75,-17) 64(-13.25,-17) 65(-12.75,-17) 66(-12.25,-17) 67(-11.75,-17) 68(-11.25,-17) 69(-10.75,-17) 70(-10.25,-17) 71(-9.75,-17) 72(-9.25,-17) 73(-8.75,-17) 74(-8.25,-17) 75(-7.75,-17) 76(-7.25,-17) 77(-6.75,-17) 78(-6.25,-17) 79(-5.75,-17) 80(-5.25,-17) 81(-4.75,-17) 82(-4.25,-17) 83(-3.75,-17) 84(-3.25,-17) 85(-2.75,-17) 86(-2.25,-17) 87(-1.75,-17) 88(-1.25,-17) 89(-0.75,-17) 90(-0.25,-17) 91(0.25,-17) 92(0.75,-17) 93(1.25,-17) 94(1.75,-17) 95(2.25,-17) 96(2.75,-17) 97(3.25,-17) 98(3.75,-17) 99(4.25,-17) 100(4.75,-17) 101(5.25,-17) 102(5.75,-17) 103(6.25,-17) 104(6.75,-17) 105(7.25,-17) 106(7.75,-17) 107(8.25,-17) 108(8.75,-17) 109(9.25,-17) 110(9.75,-17) 111(10.25,-17) 112(10.75,-17) 113(11.25,-17) 114(11.75,-17) 115(12.25,-17) 116(12.75,-17) 117(13.25,-17) 118(13.75,-17) 119(14.25,-17) 120(14.75,-17) 181(14.75,17) 182(14.25,17) 183(13.75,17) 184(13.25,17) 185(12.75,17) 186(12.25,17) 187(11.75,17) 188(11.25,17) 189(10.75,17) 190(10.25,17) 191(9.75,17) 192(9.25,17) 193(8.75,17) 194(8.25,17) 195(7.75,17) 196(7.25,17) 197(6.75,17) 198(6.25,17) 199(5.75,17) 200(5.25,17) 201(4.75,17) 202(4.25,17) 203(3.75,17) 204(3.25,17) 205(2.75,17) 206(2.25,17) 207(1.75,17) 208(1.25,17) 209(0.75,17) 210(0.25,17) 211(-0.25,17) 212(-0.75,17) 213(-1.25,17) 214(-1.75,17) 215(-2.25,17) 216(-2.75,17) 217(-3.25,17) 218(-3.75,17) 219(-4.25,17) 220(-4.75,17) 221(-5.25,17) 222(-5.75,17) 223(-6.25,17) 224(-6.75,17) 225(-7.25,17) 226(-7.75,17) 227(-8.25,17) 228(-8.75,17) 229(-9.25,17) 230(-9.75,17) 231(-10.25,17) 232(-10.75,17) 233(-11.25,17) 234(-11.75,17) 235(-12.25,17) 236(-12.75,17) 237(-13.25,17) 238(-13.75,17) 239(-14.25,17) 240(-14.75,17)
Top Overlay:
  circle w0.25: c-17,15.45 r0.125
  lines w0.2: -15.9,-15.9 15.9,-15.9 15.9,15.9 -15.9,15.9 -15.9,-15.9

## F-QFP32x32-G240/Y1.5N [mm]
pads (240):
  rect 1.5x0.3 smd: 1(-16.975,14.75) 2(-16.975,14.25) 3(-16.975,13.75) 4(-16.975,13.25) 5(-16.975,12.75) 6(-16.975,12.25) 7(-16.975,11.75) 8(-16.975,11.25) 9(-16.975,10.75) 10(-16.975,10.25) 11(-16.975,9.75) 12(-16.975,9.25) 13(-16.975,8.75) 14(-16.975,8.25) 15(-16.975,7.75) 16(-16.975,7.25) 17(-16.975,6.75) 18(-16.975,6.25) 19(-16.975,5.75) 20(-16.975,5.25) 21(-16.975,4.75) 22(-16.975,4.25) 23(-16.975,3.75) 24(-16.975,3.25) 25(-16.975,2.75) 26(-16.975,2.25) 27(-16.975,1.75) 28(-16.975,1.25) 29(-16.975,0.75) 30(-16.975,0.25) 31(-16.975,-0.25) 32(-16.975,-0.75) 33(-16.975,-1.25) 34(-16.975,-1.75) 35(-16.975,-2.25) 36(-16.975,-2.75) 37(-16.975,-3.25) 38(-16.975,-3.75) 39(-16.975,-4.25) 40(-16.975,-4.75) 41(-16.975,-5.25) 42(-16.975,-5.75) 43(-16.975,-6.25) 44(-16.975,-6.75) 45(-16.975,-7.25) 46(-16.975,-7.75) 47(-16.975,-8.25) 48(-16.975,-8.75) 49(-16.975,-9.25) 50(-16.975,-9.75) 51(-16.975,-10.25) 52(-16.975,-10.75) 53(-16.975,-11.25) 54(-16.975,-11.75) 55(-16.975,-12.25) 56(-16.975,-12.75) 57(-16.975,-13.25) 58(-16.975,-13.75) 59(-16.975,-14.25) 60(-16.975,-14.75) 121(16.975,-14.75) 122(16.975,-14.25) 123(16.975,-13.75) 124(16.975,-13.25) 125(16.975,-12.75) 126(16.975,-12.25) 127(16.975,-11.75) 128(16.975,-11.25) 129(16.975,-10.75) 130(16.975,-10.25) 131(16.975,-9.75) 132(16.975,-9.25) 133(16.975,-8.75) 134(16.975,-8.25) 135(16.975,-7.75) 136(16.975,-7.25) 137(16.975,-6.75) 138(16.975,-6.25) 139(16.975,-5.75) 140(16.975,-5.25) 141(16.975,-4.75) 142(16.975,-4.25) 143(16.975,-3.75) 144(16.975,-3.25) 145(16.975,-2.75) 146(16.975,-2.25) 147(16.975,-1.75) 148(16.975,-1.25) 149(16.975,-0.75) 150(16.975,-0.25) 151(16.975,0.25) 152(16.975,0.75) 153(16.975,1.25) 154(16.975,1.75) 155(16.975,2.25) 156(16.975,2.75) 157(16.975,3.25) 158(16.975,3.75) 159(16.975,4.25) 160(16.975,4.75) 161(16.975,5.25) 162(16.975,5.75) 163(16.975,6.25) 164(16.975,6.75) 165(16.975,7.25) 166(16.975,7.75) 167(16.975,8.25) 168(16.975,8.75) 169(16.975,9.25) 170(16.975,9.75) 171(16.975,10.25) 172(16.975,10.75) 173(16.975,11.25) 174(16.975,11.75) 175(16.975,12.25) 176(16.975,12.75) 177(16.975,13.25) 178(16.975,13.75) 179(16.975,14.25) 180(16.975,14.75)
  rect 0.3x1.5 smd: 61(-14.75,-16.975) 62(-14.25,-16.975) 63(-13.75,-16.975) 64(-13.25,-16.975) 65(-12.75,-16.975) 66(-12.25,-16.975) 67(-11.75,-16.975) 68(-11.25,-16.975) 69(-10.75,-16.975) 70(-10.25,-16.975) 71(-9.75,-16.975) 72(-9.25,-16.975) 73(-8.75,-16.975) 74(-8.25,-16.975) 75(-7.75,-16.975) 76(-7.25,-16.975) 77(-6.75,-16.975) 78(-6.25,-16.975) 79(-5.75,-16.975) 80(-5.25,-16.975) 81(-4.75,-16.975) 82(-4.25,-16.975) 83(-3.75,-16.975) 84(-3.25,-16.975) 85(-2.75,-16.975) 86(-2.25,-16.975) 87(-1.75,-16.975) 88(-1.25,-16.975) 89(-0.75,-16.975) 90(-0.25,-16.975) 91(0.25,-16.975) 92(0.75,-16.975) 93(1.25,-16.975) 94(1.75,-16.975) 95(2.25,-16.975) 96(2.75,-16.975) 97(3.25,-16.975) 98(3.75,-16.975) 99(4.25,-16.975) 100(4.75,-16.975) 101(5.25,-16.975) 102(5.75,-16.975) 103(6.25,-16.975) 104(6.75,-16.975) 105(7.25,-16.975) 106(7.75,-16.975) 107(8.25,-16.975) 108(8.75,-16.975) 109(9.25,-16.975) 110(9.75,-16.975) 111(10.25,-16.975) 112(10.75,-16.975) 113(11.25,-16.975) 114(11.75,-16.975) 115(12.25,-16.975) 116(12.75,-16.975) 117(13.25,-16.975) 118(13.75,-16.975) 119(14.25,-16.975) 120(14.75,-16.975) 181(14.75,16.975) 182(14.25,16.975) 183(13.75,16.975) 184(13.25,16.975) 185(12.75,16.975) 186(12.25,16.975) 187(11.75,16.975) 188(11.25,16.975) 189(10.75,16.975) 190(10.25,16.975) 191(9.75,16.975) 192(9.25,16.975) 193(8.75,16.975) 194(8.25,16.975) 195(7.75,16.975) 196(7.25,16.975) 197(6.75,16.975) 198(6.25,16.975) 199(5.75,16.975) 200(5.25,16.975) 201(4.75,16.975) 202(4.25,16.975) 203(3.75,16.975) 204(3.25,16.975) 205(2.75,16.975) 206(2.25,16.975) 207(1.75,16.975) 208(1.25,16.975) 209(0.75,16.975) 210(0.25,16.975) 211(-0.25,16.975) 212(-0.75,16.975) 213(-1.25,16.975) 214(-1.75,16.975) 215(-2.25,16.975) 216(-2.75,16.975) 217(-3.25,16.975) 218(-3.75,16.975) 219(-4.25,16.975) 220(-4.75,16.975) 221(-5.25,16.975) 222(-5.75,16.975) 223(-6.25,16.975) 224(-6.75,16.975) 225(-7.25,16.975) 226(-7.75,16.975) 227(-8.25,16.975) 228(-8.75,16.975) 229(-9.25,16.975) 230(-9.75,16.975) 231(-10.25,16.975) 232(-10.75,16.975) 233(-11.25,16.975) 234(-11.75,16.975) 235(-12.25,16.975) 236(-12.75,16.975) 237(-13.25,16.975) 238(-13.75,16.975) 239(-14.25,16.975) 240(-14.75,16.975)
Top Overlay:
  circle w0.25: c-16.975,15.45 r0.125
  lines w0.2: -15.825,-15.825 15.825,-15.825 15.825,15.825 -15.825,15.825 -15.825,-15.825

## F-QFP32x32-G240/Y1.6N [mm]
pads (240):
  rect 1.6x0.3 smd: 1(-16.925,14.75) 2(-16.925,14.25) 3(-16.925,13.75) 4(-16.925,13.25) 5(-16.925,12.75) 6(-16.925,12.25) 7(-16.925,11.75) 8(-16.925,11.25) 9(-16.925,10.75) 10(-16.925,10.25) 11(-16.925,9.75) 12(-16.925,9.25) 13(-16.925,8.75) 14(-16.925,8.25) 15(-16.925,7.75) 16(-16.925,7.25) 17(-16.925,6.75) 18(-16.925,6.25) 19(-16.925,5.75) 20(-16.925,5.25) 21(-16.925,4.75) 22(-16.925,4.25) 23(-16.925,3.75) 24(-16.925,3.25) 25(-16.925,2.75) 26(-16.925,2.25) 27(-16.925,1.75) 28(-16.925,1.25) 29(-16.925,0.75) 30(-16.925,0.25) 31(-16.925,-0.25) 32(-16.925,-0.75) 33(-16.925,-1.25) 34(-16.925,-1.75) 35(-16.925,-2.25) 36(-16.925,-2.75) 37(-16.925,-3.25) 38(-16.925,-3.75) 39(-16.925,-4.25) 40(-16.925,-4.75) 41(-16.925,-5.25) 42(-16.925,-5.75) 43(-16.925,-6.25) 44(-16.925,-6.75) 45(-16.925,-7.25) 46(-16.925,-7.75) 47(-16.925,-8.25) 48(-16.925,-8.75) 49(-16.925,-9.25) 50(-16.925,-9.75) 51(-16.925,-10.25) 52(-16.925,-10.75) 53(-16.925,-11.25) 54(-16.925,-11.75) 55(-16.925,-12.25) 56(-16.925,-12.75) 57(-16.925,-13.25) 58(-16.925,-13.75) 59(-16.925,-14.25) 60(-16.925,-14.75) 121(16.925,-14.75) 122(16.925,-14.25) 123(16.925,-13.75) 124(16.925,-13.25) 125(16.925,-12.75) 126(16.925,-12.25) 127(16.925,-11.75) 128(16.925,-11.25) 129(16.925,-10.75) 130(16.925,-10.25) 131(16.925,-9.75) 132(16.925,-9.25) 133(16.925,-8.75) 134(16.925,-8.25) 135(16.925,-7.75) 136(16.925,-7.25) 137(16.925,-6.75) 138(16.925,-6.25) 139(16.925,-5.75) 140(16.925,-5.25) 141(16.925,-4.75) 142(16.925,-4.25) 143(16.925,-3.75) 144(16.925,-3.25) 145(16.925,-2.75) 146(16.925,-2.25) 147(16.925,-1.75) 148(16.925,-1.25) 149(16.925,-0.75) 150(16.925,-0.25) 151(16.925,0.25) 152(16.925,0.75) 153(16.925,1.25) 154(16.925,1.75) 155(16.925,2.25) 156(16.925,2.75) 157(16.925,3.25) 158(16.925,3.75) 159(16.925,4.25) 160(16.925,4.75) 161(16.925,5.25) 162(16.925,5.75) 163(16.925,6.25) 164(16.925,6.75) 165(16.925,7.25) 166(16.925,7.75) 167(16.925,8.25) 168(16.925,8.75) 169(16.925,9.25) 170(16.925,9.75) 171(16.925,10.25) 172(16.925,10.75) 173(16.925,11.25) 174(16.925,11.75) 175(16.925,12.25) 176(16.925,12.75) 177(16.925,13.25) 178(16.925,13.75) 179(16.925,14.25) 180(16.925,14.75)
  rect 0.3x1.6 smd: 61(-14.75,-16.925) 62(-14.25,-16.925) 63(-13.75,-16.925) 64(-13.25,-16.925) 65(-12.75,-16.925) 66(-12.25,-16.925) 67(-11.75,-16.925) 68(-11.25,-16.925) 69(-10.75,-16.925) 70(-10.25,-16.925) 71(-9.75,-16.925) 72(-9.25,-16.925) 73(-8.75,-16.925) 74(-8.25,-16.925) 75(-7.75,-16.925) 76(-7.25,-16.925) 77(-6.75,-16.925) 78(-6.25,-16.925) 79(-5.75,-16.925) 80(-5.25,-16.925) 81(-4.75,-16.925) 82(-4.25,-16.925) 83(-3.75,-16.925) 84(-3.25,-16.925) 85(-2.75,-16.925) 86(-2.25,-16.925) 87(-1.75,-16.925) 88(-1.25,-16.925) 89(-0.75,-16.925) 90(-0.25,-16.925) 91(0.25,-16.925) 92(0.75,-16.925) 93(1.25,-16.925) 94(1.75,-16.925) 95(2.25,-16.925) 96(2.75,-16.925) 97(3.25,-16.925) 98(3.75,-16.925) 99(4.25,-16.925) 100(4.75,-16.925) 101(5.25,-16.925) 102(5.75,-16.925) 103(6.25,-16.925) 104(6.75,-16.925) 105(7.25,-16.925) 106(7.75,-16.925) 107(8.25,-16.925) 108(8.75,-16.925) 109(9.25,-16.925) 110(9.75,-16.925) 111(10.25,-16.925) 112(10.75,-16.925) 113(11.25,-16.925) 114(11.75,-16.925) 115(12.25,-16.925) 116(12.75,-16.925) 117(13.25,-16.925) 118(13.75,-16.925) 119(14.25,-16.925) 120(14.75,-16.925) 181(14.75,16.925) 182(14.25,16.925) 183(13.75,16.925) 184(13.25,16.925) 185(12.75,16.925) 186(12.25,16.925) 187(11.75,16.925) 188(11.25,16.925) 189(10.75,16.925) 190(10.25,16.925) 191(9.75,16.925) 192(9.25,16.925) 193(8.75,16.925) 194(8.25,16.925) 195(7.75,16.925) 196(7.25,16.925) 197(6.75,16.925) 198(6.25,16.925) 199(5.75,16.925) 200(5.25,16.925) 201(4.75,16.925) 202(4.25,16.925) 203(3.75,16.925) 204(3.25,16.925) 205(2.75,16.925) 206(2.25,16.925) 207(1.75,16.925) 208(1.25,16.925) 209(0.75,16.925) 210(0.25,16.925) 211(-0.25,16.925) 212(-0.75,16.925) 213(-1.25,16.925) 214(-1.75,16.925) 215(-2.25,16.925) 216(-2.75,16.925) 217(-3.25,16.925) 218(-3.75,16.925) 219(-4.25,16.925) 220(-4.75,16.925) 221(-5.25,16.925) 222(-5.75,16.925) 223(-6.25,16.925) 224(-6.75,16.925) 225(-7.25,16.925) 226(-7.75,16.925) 227(-8.25,16.925) 228(-8.75,16.925) 229(-9.25,16.925) 230(-9.75,16.925) 231(-10.25,16.925) 232(-10.75,16.925) 233(-11.25,16.925) 234(-11.75,16.925) 235(-12.25,16.925) 236(-12.75,16.925) 237(-13.25,16.925) 238(-13.75,16.925) 239(-14.25,16.925) 240(-14.75,16.925)
Top Overlay:
  circle w0.25: c-16.925,15.45 r0.125
  lines w0.2: -15.725,-15.725 -15.725,15.725 15.725,15.725 15.725,-15.725 -15.725,-15.725

## F-QFP32x32-G248/N [mm]
pads (248):
  rect 1.6x0.3 smd: 1(-16.6,15.25) 2(-16.6,14.75) 3(-16.6,14.25) 4(-16.6,13.75) 5(-16.6,13.25) 6(-16.6,12.75) 7(-16.6,12.25) 8(-16.6,11.75) 9(-16.6,11.25) 10(-16.6,10.75) 11(-16.6,10.25) 12(-16.6,9.75) 13(-16.6,9.25) 14(-16.6,8.75) 15(-16.6,8.25) 16(-16.6,7.75) 17(-16.6,7.25) 18(-16.6,6.75) 19(-16.6,6.25) 20(-16.6,5.75) 21(-16.6,5.25) 22(-16.6,4.75) 23(-16.6,4.25) 24(-16.6,3.75) 25(-16.6,3.25) 26(-16.6,2.75) 27(-16.6,2.25) 28(-16.6,1.75) 29(-16.6,1.25) 30(-16.6,0.75) 31(-16.6,0.25) 32(-16.6,-0.25) 33(-16.6,-0.75) 34(-16.6,-1.25) 35(-16.6,-1.75) 36(-16.6,-2.25) 37(-16.6,-2.75) 38(-16.6,-3.25) 39(-16.6,-3.75) 40(-16.6,-4.25) 41(-16.6,-4.75) 42(-16.6,-5.25) 43(-16.6,-5.75) 44(-16.6,-6.25) 45(-16.6,-6.75) 46(-16.6,-7.25) 47(-16.6,-7.75) 48(-16.6,-8.25) 49(-16.6,-8.75) 50(-16.6,-9.25) 51(-16.6,-9.75) 52(-16.6,-10.25) 53(-16.6,-10.75) 54(-16.6,-11.25) 55(-16.6,-11.75) 56(-16.6,-12.25) 57(-16.6,-12.75) 58(-16.6,-13.25) 59(-16.6,-13.75) 60(-16.6,-14.25) 61(-16.6,-14.75) 62(-16.6,-15.25) 125(16.6,-15.25) 126(16.6,-14.75) 127(16.6,-14.25) 128(16.6,-13.75) 129(16.6,-13.25) 130(16.6,-12.75) 131(16.6,-12.25) 132(16.6,-11.75) 133(16.6,-11.25) 134(16.6,-10.75) 135(16.6,-10.25) 136(16.6,-9.75) 137(16.6,-9.25) 138(16.6,-8.75) 139(16.6,-8.25) 140(16.6,-7.75) 141(16.6,-7.25) 142(16.6,-6.75) 143(16.6,-6.25) 144(16.6,-5.75) 145(16.6,-5.25) 146(16.6,-4.75) 147(16.6,-4.25) 148(16.6,-3.75) 149(16.6,-3.25) 150(16.6,-2.75) 151(16.6,-2.25) 152(16.6,-1.75) 153(16.6,-1.25) 154(16.6,-0.75) 155(16.6,-0.25) 156(16.6,0.25) 157(16.6,0.75) 158(16.6,1.25) 159(16.6,1.75) 160(16.6,2.25) 161(16.6,2.75) 162(16.6,3.25) 163(16.6,3.75) 164(16.6,4.25) 165(16.6,4.75) 166(16.6,5.25) 167(16.6,5.75) 168(16.6,6.25) 169(16.6,6.75) 170(16.6,7.25) 171(16.6,7.75) 172(16.6,8.25) 173(16.6,8.75) 174(16.6,9.25) 175(16.6,9.75) 176(16.6,10.25) 177(16.6,10.75) 178(16.6,11.25) 179(16.6,11.75) 180(16.6,12.25) 181(16.6,12.75) 182(16.6,13.25) 183(16.6,13.75) 184(16.6,14.25) 185(16.6,14.75) 186(16.6,15.25)
  rect 0.3x1.6 smd: 63(-15.25,-16.6) 64(-14.75,-16.6) 65(-14.25,-16.6) 66(-13.75,-16.6) 67(-13.25,-16.6) 68(-12.75,-16.6) 69(-12.25,-16.6) 70(-11.75,-16.6) 71(-11.25,-16.6) 72(-10.75,-16.6) 73(-10.25,-16.6) 74(-9.75,-16.6) 75(-9.25,-16.6) 76(-8.75,-16.6) 77(-8.25,-16.6) 78(-7.75,-16.6) 79(-7.25,-16.6) 80(-6.75,-16.6) 81(-6.25,-16.6) 82(-5.75,-16.6) 83(-5.25,-16.6) 84(-4.75,-16.6) 85(-4.25,-16.6) 86(-3.75,-16.6) 87(-3.25,-16.6) 88(-2.75,-16.6) 89(-2.25,-16.6) 90(-1.75,-16.6) 91(-1.25,-16.6) 92(-0.75,-16.6) 93(-0.25,-16.6) 94(0.25,-16.6) 95(0.75,-16.6) 96(1.25,-16.6) 97(1.75,-16.6) 98(2.25,-16.6) 99(2.75,-16.6) 100(3.25,-16.6) 101(3.75,-16.6) 102(4.25,-16.6) 103(4.75,-16.6) 104(5.25,-16.6) 105(5.75,-16.6) 106(6.25,-16.6) 107(6.75,-16.6) 108(7.25,-16.6) 109(7.75,-16.6) 110(8.25,-16.6) 111(8.75,-16.6) 112(9.25,-16.6) 113(9.75,-16.6) 114(10.25,-16.6) 115(10.75,-16.6) 116(11.25,-16.6) 117(11.75,-16.6) 118(12.25,-16.6) 119(12.75,-16.6) 120(13.25,-16.6) 121(13.75,-16.6) 122(14.25,-16.6) 123(14.75,-16.6) 124(15.25,-16.6) 187(15.25,16.6) 188(14.75,16.6) 189(14.25,16.6) 190(13.75,16.6) 191(13.25,16.6) 192(12.75,16.6) 193(12.25,16.6) 194(11.75,16.6) 195(11.25,16.6) 196(10.75,16.6) 197(10.25,16.6) 198(9.75,16.6) 199(9.25,16.6) 200(8.75,16.6) 201(8.25,16.6) 202(7.75,16.6) 203(7.25,16.6) 204(6.75,16.6) 205(6.25,16.6) 206(5.75,16.6) 207(5.25,16.6) 208(4.75,16.6) 209(4.25,16.6) 210(3.75,16.6) 211(3.25,16.6) 212(2.75,16.6) 213(2.25,16.6) 214(1.75,16.6) 215(1.25,16.6) 216(0.75,16.6) 217(0.25,16.6) 218(-0.25,16.6) 219(-0.75,16.6) 220(-1.25,16.6) 221(-1.75,16.6) 222(-2.25,16.6) 223(-2.75,16.6) 224(-3.25,16.6) 225(-3.75,16.6) 226(-4.25,16.6) 227(-4.75,16.6) 228(-5.25,16.6) 229(-5.75,16.6) 230(-6.25,16.6) 231(-6.75,16.6) 232(-7.25,16.6) 233(-7.75,16.6) 234(-8.25,16.6) 235(-8.75,16.6) 236(-9.25,16.6) 237(-9.75,16.6) 238(-10.25,16.6) 239(-10.75,16.6) 240(-11.25,16.6) 241(-11.75,16.6) 242(-12.25,16.6) 243(-12.75,16.6) 244(-13.25,16.6) 245(-13.75,16.6) 246(-14.25,16.6) 247(-14.75,16.6) 248(-15.25,16.6)
Top Overlay:
  circle w0.25: c-17.96,15.25 r0.125
  lines w0.2: -15.4,-15.4 -15.4,15.4 15.4,15.4 15.4,-15.4 -15.4,-15.4

## F-QFP36x36-G272/N [mm]
pads (272):
  rect 1.6x0.3 smd: 1(-18.6,16.75) 2(-18.6,16.25) 3(-18.6,15.75) 4(-18.6,15.25) 5(-18.6,14.75) 6(-18.6,14.25) 7(-18.6,13.75) 8(-18.6,13.25) 9(-18.6,12.75) 10(-18.6,12.25) 11(-18.6,11.75) 12(-18.6,11.25) 13(-18.6,10.75) 14(-18.6,10.25) 15(-18.6,9.75) 16(-18.6,9.25) 17(-18.6,8.75) 18(-18.6,8.25) 19(-18.6,7.75) 20(-18.6,7.25) 21(-18.6,6.75) 22(-18.6,6.25) 23(-18.6,5.75) 24(-18.6,5.25) 25(-18.6,4.75) 26(-18.6,4.25) 27(-18.6,3.75) 28(-18.6,3.25) 29(-18.6,2.75) 30(-18.6,2.25) 31(-18.6,1.75) 32(-18.6,1.25) 33(-18.6,0.75) 34(-18.6,0.25) 35(-18.6,-0.25) 36(-18.6,-0.75) 37(-18.6,-1.25) 38(-18.6,-1.75) 39(-18.6,-2.25) 40(-18.6,-2.75) 41(-18.6,-3.25) 42(-18.6,-3.75) 43(-18.6,-4.25) 44(-18.6,-4.75) 45(-18.6,-5.25) 46(-18.6,-5.75) 47(-18.6,-6.25) 48(-18.6,-6.75) 49(-18.6,-7.25) 50(-18.6,-7.75) 51(-18.6,-8.25) 52(-18.6,-8.75) 53(-18.6,-9.25) 54(-18.6,-9.75) 55(-18.6,-10.25) 56(-18.6,-10.75) 57(-18.6,-11.25) 58(-18.6,-11.75) 59(-18.6,-12.25) 60(-18.6,-12.75) 61(-18.6,-13.25) 62(-18.6,-13.75) 63(-18.6,-14.25) 64(-18.6,-14.75) 65(-18.6,-15.25) 66(-18.6,-15.75) 67(-18.6,-16.25) 68(-18.6,-16.75) 137(18.6,-16.75) 138(18.6,-16.25) 139(18.6,-15.75) 140(18.6,-15.25) 141(18.6,-14.75) 142(18.6,-14.25) 143(18.6,-13.75) 144(18.6,-13.25) 145(18.6,-12.75) 146(18.6,-12.25) 147(18.6,-11.75) 148(18.6,-11.25) 149(18.6,-10.75) 150(18.6,-10.25) 151(18.6,-9.75) 152(18.6,-9.25) 153(18.6,-8.75) 154(18.6,-8.25) 155(18.6,-7.75) 156(18.6,-7.25) 157(18.6,-6.75) 158(18.6,-6.25) 159(18.6,-5.75) 160(18.6,-5.25) 161(18.6,-4.75) 162(18.6,-4.25) 163(18.6,-3.75) 164(18.6,-3.25) 165(18.6,-2.75) 166(18.6,-2.25) 167(18.6,-1.75) 168(18.6,-1.25) 169(18.6,-0.75) 170(18.6,-0.25) 171(18.6,0.25) 172(18.6,0.75) 173(18.6,1.25) 174(18.6,1.75) 175(18.6,2.25) 176(18.6,2.75) 177(18.6,3.25) 178(18.6,3.75) 179(18.6,4.25) 180(18.6,4.75) 181(18.6,5.25) 182(18.6,5.75) 183(18.6,6.25) 184(18.6,6.75) 185(18.6,7.25) 186(18.6,7.75) 187(18.6,8.25) 188(18.6,8.75) 189(18.6,9.25) 190(18.6,9.75) 191(18.6,10.25) 192(18.6,10.75) 193(18.6,11.25) 194(18.6,11.75) 195(18.6,12.25) 196(18.6,12.75) 197(18.6,13.25) 198(18.6,13.75) 199(18.6,14.25) 200(18.6,14.75) 201(18.6,15.25) 202(18.6,15.75) 203(18.6,16.25) 204(18.6,16.75)
  rect 0.3x1.6 smd: 69(-16.75,-18.6) 70(-16.25,-18.6) 71(-15.75,-18.6) 72(-15.25,-18.6) 73(-14.75,-18.6) 74(-14.25,-18.6) 75(-13.75,-18.6) 76(-13.25,-18.6) 77(-12.75,-18.6) 78(-12.25,-18.6) 79(-11.75,-18.6) 80(-11.25,-18.6) 81(-10.75,-18.6) 82(-10.25,-18.6) 83(-9.75,-18.6) 84(-9.25,-18.6) 85(-8.75,-18.6) 86(-8.25,-18.6) 87(-7.75,-18.6) 88(-7.25,-18.6) 89(-6.75,-18.6) 90(-6.25,-18.6) 91(-5.75,-18.6) 92(-5.25,-18.6) 93(-4.75,-18.6) 94(-4.25,-18.6) 95(-3.75,-18.6) 96(-3.25,-18.6) 97(-2.75,-18.6) 98(-2.25,-18.6) 99(-1.75,-18.6) 100(-1.25,-18.6) 101(-0.75,-18.6) 102(-0.25,-18.6) 103(0.25,-18.6) 104(0.75,-18.6) 105(1.25,-18.6) 106(1.75,-18.6) 107(2.25,-18.6) 108(2.75,-18.6) 109(3.25,-18.6) 110(3.75,-18.6) 111(4.25,-18.6) 112(4.75,-18.6) 113(5.25,-18.6) 114(5.75,-18.6) 115(6.25,-18.6) 116(6.75,-18.6) 117(7.25,-18.6) 118(7.75,-18.6) 119(8.25,-18.6) 120(8.75,-18.6) 121(9.25,-18.6) 122(9.75,-18.6) 123(10.25,-18.6) 124(10.75,-18.6) 125(11.25,-18.6) 126(11.75,-18.6) 127(12.25,-18.6) 128(12.75,-18.6) 129(13.25,-18.6) 130(13.75,-18.6) 131(14.25,-18.6) 132(14.75,-18.6) 133(15.25,-18.6) 134(15.75,-18.6) 135(16.25,-18.6) 136(16.75,-18.6) 205(16.75,18.6) 206(16.25,18.6) 207(15.75,18.6) 208(15.25,18.6) 209(14.75,18.6) 210(14.25,18.6) 211(13.75,18.6) 212(13.25,18.6) 213(12.75,18.6) 214(12.25,18.6) 215(11.75,18.6) 216(11.25,18.6) 217(10.75,18.6) 218(10.25,18.6) 219(9.75,18.6) 220(9.25,18.6) 221(8.75,18.6) 222(8.25,18.6) 223(7.75,18.6) 224(7.25,18.6) 225(6.75,18.6) 226(6.25,18.6) 227(5.75,18.6) 228(5.25,18.6) 229(4.75,18.6) 230(4.25,18.6) 231(3.75,18.6) 232(3.25,18.6) 233(2.75,18.6) 234(2.25,18.6) 235(1.75,18.6) 236(1.25,18.6) 237(0.75,18.6) 238(0.25,18.6) 239(-0.25,18.6) 240(-0.75,18.6) 241(-1.25,18.6) 242(-1.75,18.6) 243(-2.25,18.6) 244(-2.75,18.6) 245(-3.25,18.6) 246(-3.75,18.6) 247(-4.25,18.6) 248(-4.75,18.6) 249(-5.25,18.6) 250(-5.75,18.6) 251(-6.25,18.6) 252(-6.75,18.6) 253(-7.25,18.6) 254(-7.75,18.6) 255(-8.25,18.6) 256(-8.75,18.6) 257(-9.25,18.6) 258(-9.75,18.6) 259(-10.25,18.6) 260(-10.75,18.6) 261(-11.25,18.6) 262(-11.75,18.6) 263(-12.25,18.6) 264(-12.75,18.6) 265(-13.25,18.6) 266(-13.75,18.6) 267(-14.25,18.6) 268(-14.75,18.6) 269(-15.25,18.6) 270(-15.75,18.6) 271(-16.25,18.6) 272(-16.75,18.6)
Top Overlay:
  circle w0.25: c-19.96,16.75 r0.125
  lines w0.2: -17.4,-17.4 17.4,-17.4 17.4,17.4 -17.4,17.4 -17.4,-17.4